# EAGLE library part LIS3L06AL (library ic)
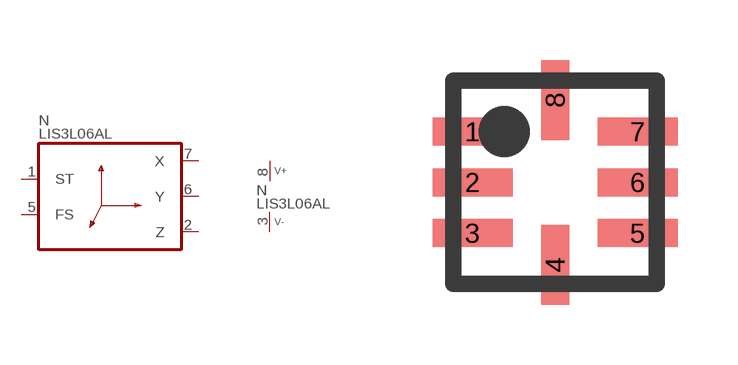
[diagram p114: symbol with the pads of LGA8; footprint LGA8]

Designator prefix N; gates A=LIS3L06 P=V+-

## LIS3L06AL  [LGA8]
1  A:ST  in
2  A:Z  out
3  P:V-  pwr
5  A:FS  in
6  A:Y  out
7  A:X  out
8  P:V+  pwr

## Footprint LGA8 (pad centres in mm)
smd 2 x 0.7: 1 -2.064,1.27; 2 -2.064,0; 3 -2.064,-1.27; 5 2.064,-1.27; 6 2.064,0; 7 2.064,1.27
smd 0.7 x 2: 4 0,-2.064; 8 0,2.064